# Altium footprint library Backup Battry.PcbLib: 2 footprints
Each footprint in its own frame and in the unit in brackets; x right, y up, seen from the top. Pads: shape width x height; smd on the part's side, far side on the other; paste and mask are expansions set on the pad; w line width, h text height; cw(c..) or ccw(c..) is an arc to the next point about the centre after c.
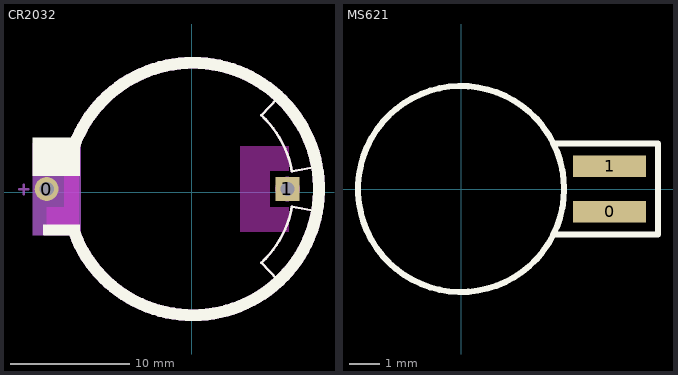
[diagram p0: the footprints below, top view; thin cyan lines are the x and y axes]

## CR2032 [mm]
pads (2):
  round 2 hole 1.2: 0(-12.202,0.267)
  rect 2x2 hole 1.2: 1(8.023,0.267)
Top Layer keep-out:
  rectangle: -10.727,-3.333 -9.502,3.867
  region: -9.502,1.792 -9.502,3.867 -12.227,3.867 -12.227,1.792
  region: -12.227,-1.258 -12.227,-3.333 -9.502,-3.333 -9.502,-1.258
  region: 8.173,1.792 8.173,3.867 4.023,3.867 4.023,1.792
  region: 4.023,-1.258 4.023,-3.333 8.173,-3.333 8.173,-1.258
  region: 6.548,3.867 4.023,3.867 4.023,-3.333 6.548,-3.333
Top Overlay:
  region: -9.402,4.609 -13.402,4.609 -13.402,1.356 -9.402,1.356
  region: -12.527,4.142 -12.527,3.267 -9.402,3.267 -9.402,4.142
  region: -9.402,-3.608 -9.402,-2.733 -12.527,-2.733 -12.527,-3.608
  lines w0.2: -12.427,-3.533 -10.352,-3.533 ; -12.427,4.067 -10.327,4.067 ; 7.173,-7.358 5.833,-5.927 ccw(c0.073,0.267) 8.398,-1.228 ; 7.173,7.892 5.833,6.462 cw(c0.073,0.267) 8.398,1.763 ; 8.423,-1.233 10.398,-1.583 ; 8.423,1.767 10.398,2.117
  lines w1: -9.886,3.897 cw(c0.073,0.267) -9.875,-3.394
Mechanical 7:
  circle w0.4: c8.023,0.267 r0.848
  region: -9.325,4.142 -13.402,4.142 -13.402,-3.633 -9.325,-3.633
  lines w0.2: -14.523,0.241 -14.323,0.241 -13.723,0.241 ; -14.123,-0.159 -14.123,0.641 ; 7.173,-7.358 5.833,-5.927 ccw(c0.073,0.267) 8.398,-1.228 ; 7.173,7.892 5.833,6.462 cw(c0.073,0.267) 8.398,1.763 ; 8.423,-1.233 10.398,-1.583 ; 8.423,1.767 10.398,2.117
  lines w1: -9.886,3.897 cw(c0.073,0.267) -9.875,-3.394
3D body: height 0.5, standoff 0, extent -10.575,-0.429 10.634,10.788
3D body: height 6, standoff 0, extent -10.509,-10.36 10.681,10.854
3D body: height 10, standoff 0, extent -13.092,-3.648 -9.573,4.242
3D body: height 10, standoff 0, extent -13.098,-3.173 -12.579,3.954
3D body: height 0.8, standoff 0.1, extent 0.176,-0.964 8.563,1.234
3D body: height 9, standoff 1, extent -11.114,-2.972 -9.652,3.329
3D body: height 0.5, standoff 0, extent -10.58,-10.322 10.628,0.895
3D body: height 0.18, standoff 0, extent -12.803,-0.222 -10.911,0.726
3D body: height 0.2, standoff -2.3, extent -12.551,-0.114 -11.814,0.648
3D body: height 0.2, standoff -2.3, extent 7.591,-0.128 8.43,0.685

## MS621 [mm] "Micro Li-ion rechargable battery"
pads (2):
  rect 2.4x0.7 smd: 0(4.9,-0.75) 1(4.9,0.75)
Top Overlay:
  circle w0.2: c0,0 r3.4
  lines w0.2: 3.1,-1.5 6.5,-1.5 6.5,1.5 3.1,1.5
3D body "MS621_batt.stp": height 2.4, standoff 0, extent -3.4,-3.4 5.9,3.4